# EAGLE library part 691311500106 (library Wurth_Elektronik_Electromechanic_Terminal_Blocks_Connectors_rev16b)
WR-TBL Serie 311 - 5.08 mm Close Vertical PCB Header , 6 Pins=>Code : Con_TBL_Pluggable_5.08_PCB_THT_Simple_V_691311500106 <http://katalog.we-online.de/media/images/eican/Con_TBL_Pluggable_5.08_PCB_THT_Simple_V_6913115001xx_pf2.jpg> Details see: http://katalog.we-online.de/en/em/691_311_500_1xx Created 2014-06-23, Karrer Zheng 2014 (C) Würth Elektronik
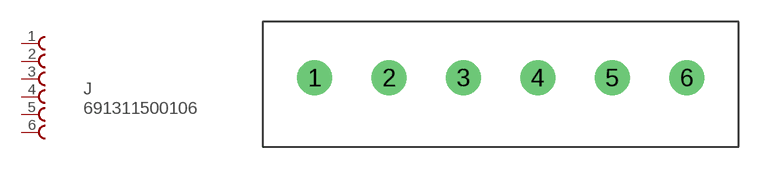
[diagram p71: symbol with the pads of 691311500106; footprint 691311500106]

Designator prefix J

## 691311500106  [691311500106]
1  1  pas
2  2  pas
3  3  pas
4  4  pas
5  5  pas
6  6  pas

## Footprint 691311500106 (pad centres in mm)
WR-TBL Serie 311 - 5.08 mm Close Vertical PCB Header , 6 Pins
drill 1.6: 1 -25.4,0; 2 -20.32,0; 3 -15.24,0; 4 -10.16,0; 5 -5.08,0; 6 0,0